# Altium footprint library MEA1608L101RTA0G.PcbLib: 1 footprints
Each footprint in its own frame and in the unit in brackets; x right, y up, seen from the top. Pads: shape width x height; smd on the part's side, far side on the other; paste and mask are expansions set on the pad; w line width, h text height; cw(c..) or ccw(c..) is an arc to the next point about the centre after c.
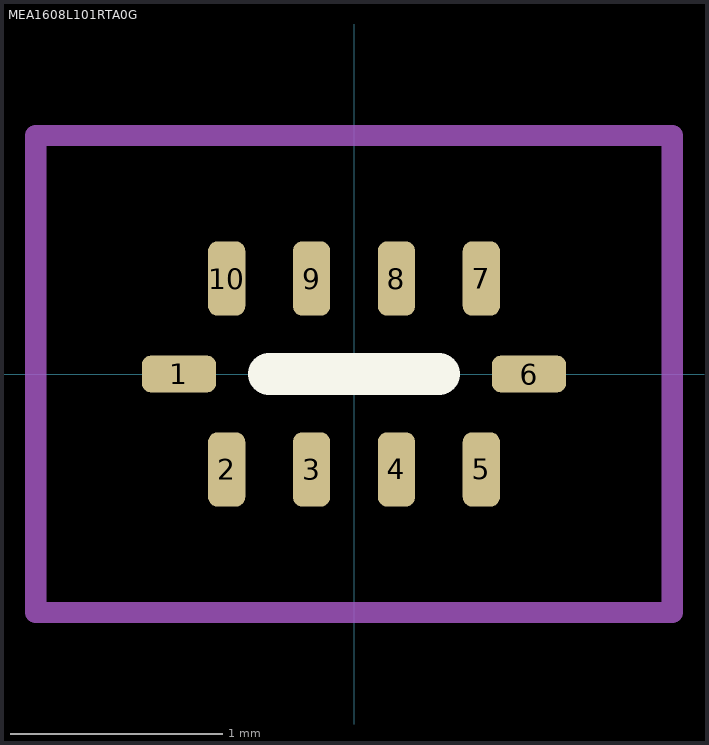
[diagram p0: the footprint, top view; thin cyan lines are the x and y axes]

## MEA1608L101RTA0G [mm]
pads (10):
  rrect50% 0.35x0.175 smd: 1(-0.825,0) 6(0.825,0)
  rrect50% 0.175x0.35 smd: 2(-0.6,-0.45) 3(-0.2,-0.45) 4(0.2,-0.45) 5(0.6,-0.45) 7(0.6,0.45) 8(0.2,0.45) 9(-0.2,0.45) 10(-0.6,0.45)
Top Overlay:
  lines w0.2: -0.4,0 0.4,0
Top Courtyard:
  lines w0.1: -1.5,-1.125 -1.5,1.125 1.5,1.125 1.5,-1.125 -1.5,-1.125
3D body "step_temp.STEP": height 0.6, standoff 0, extent -0.8,-0.4 0.8,0.4